# Altium integrated library Analog Devices RF IF Amplifiers.IntLib: 48 symbols (part 2 of 3)
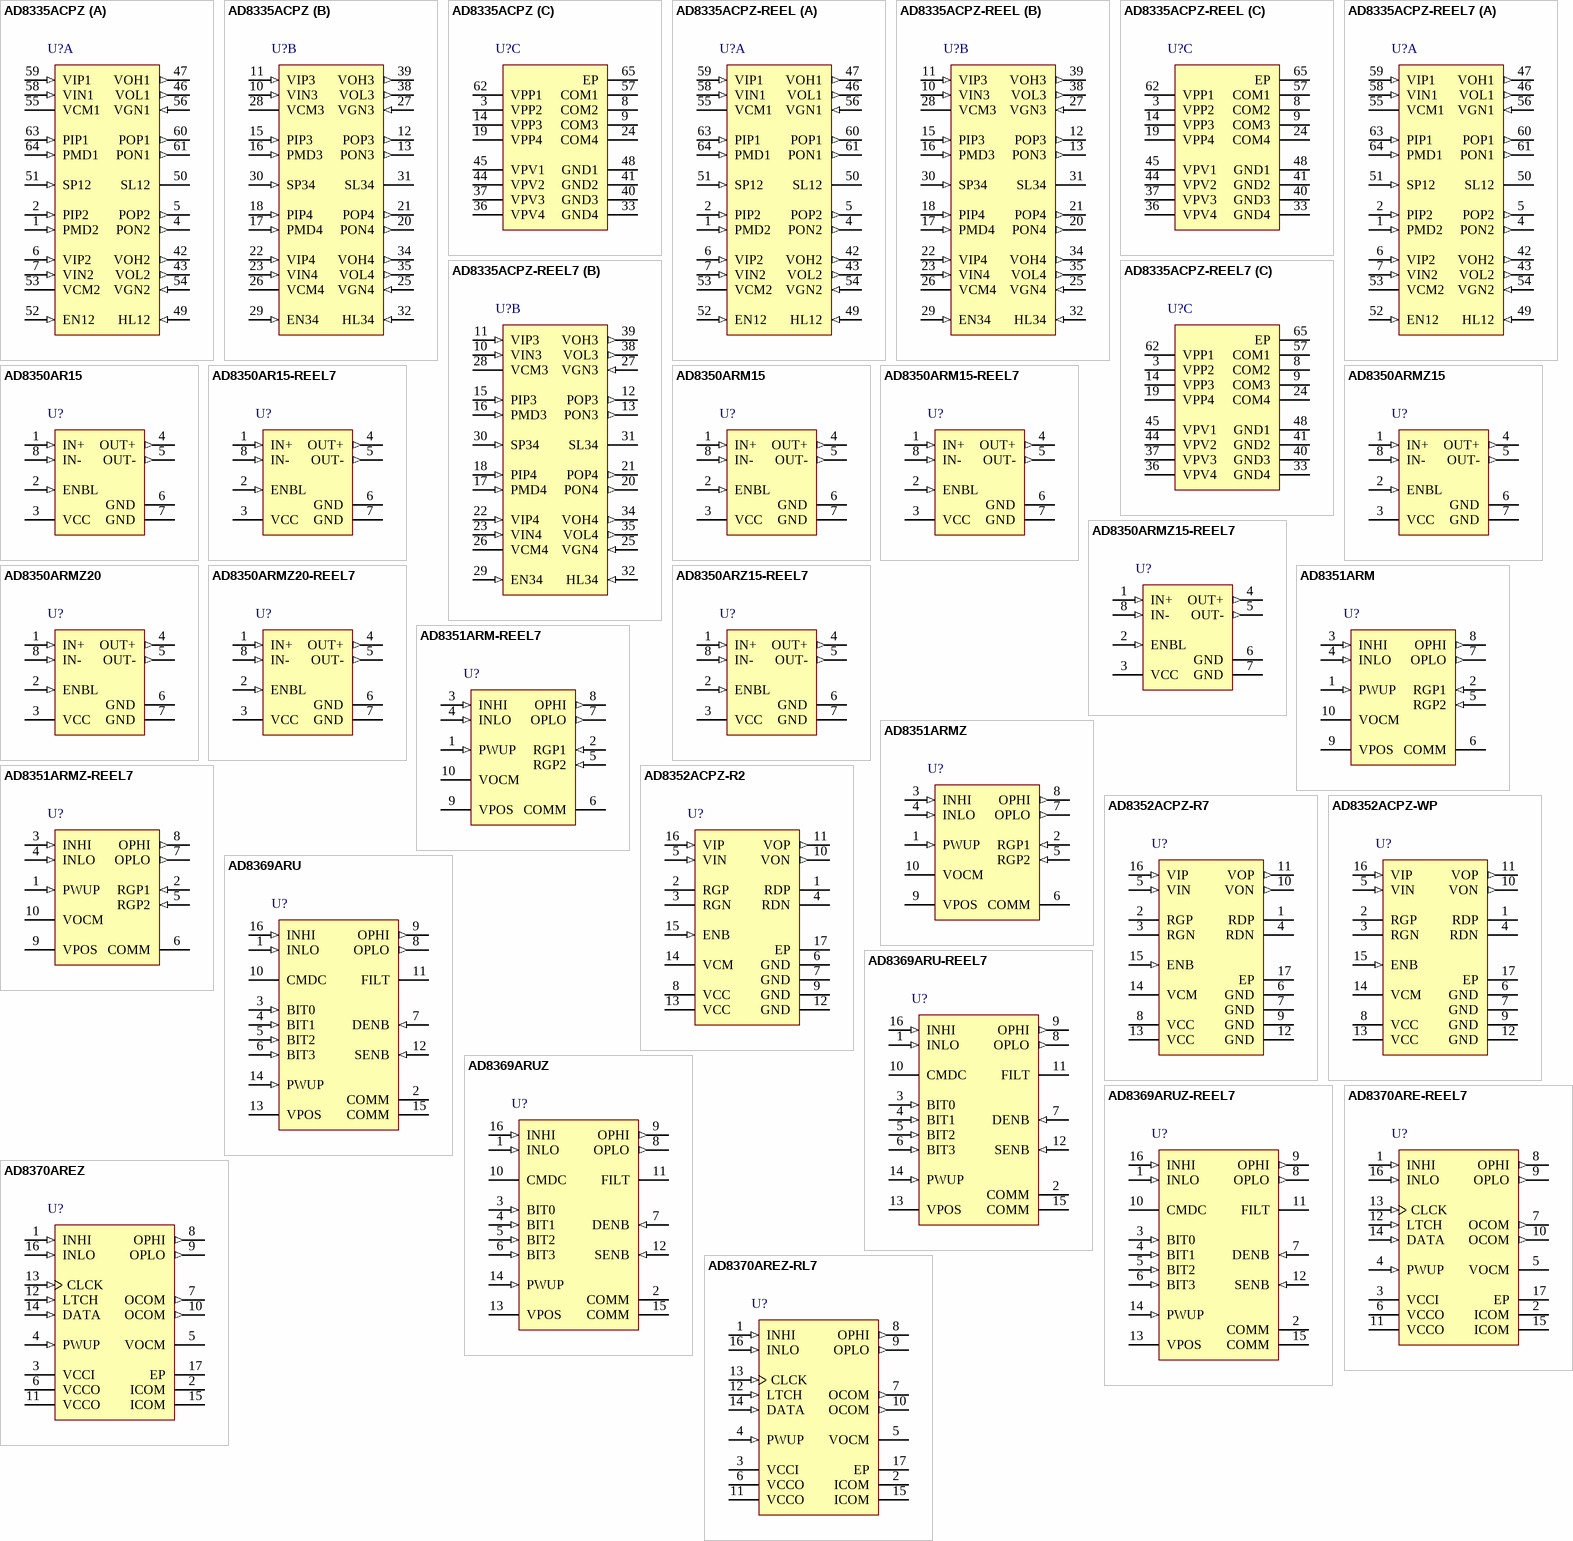
[diagram p2: symbols AD8335ACPZ to AD8370AREZ-RL7]

## AD8369ARUZ
designator U?
45 dB Digitally Controlled VGA LF to 600 MHz, 45dB, 5.5V, 37mA, RU-16, Pb-Free, 96 Tube; -3 dB BW: 600MHz; Distortion (2nd): 68dBc; Distortion (3rd): 64dBc; Output IP3: 19.5dBm; Noise Figure: 7dB; Spectral Noise: 2(nV/rtHz); DatasheetVersion: Rev. 0; PackageVersion: Nov-2002; PackageReference: RU-16; PackageDescription: 16-Lead Thin Shrink Small Outline Package [TSSOP]; Gain: 45dB; Supply Voltage (V): 5.5V; Code_JEDEC: MO-153AB; ComponentLink1Description: Manufacturer URL; ComponentLink1URL: www.analog.com; ComponentLink2Description: Datasheet; ComponentLink2URL: http://www.analog.com/static/imported-files/data_sheets/AD8369.pdf; ComponentLink3Description: Package Specification; ComponentLink3URL: http://www.analog.com/static/imported-files/packages/36244347913743854010197452789RU16.pdf
footprint ADI-RU-16_N (TSOP, 16-Leads, Body 5x4.4mm, Pitch 0.65mm, IPC Medium Density)
footprint ADI-RU-16_L (TSOP, 16-Leads, Body 5x4.4mm, Pitch 0.65mm, IPC High Density)
footprint ADI-RU-16_M (TSOP, 16-Leads, Body 5x4.4mm, Pitch 0.65mm, IPC Low Density)
pins: 1 INLO (in) "Balanced Differential Input.Internally biased,should be ac-coupled.", 2 COMM (power) "Device Common.Connect to low impedance ground.", 3 BIT0 (in) "Gain Selection Least Significant Bit. Used as DATA input signal when in serial mode of operation.", 4 BIT1 (in) "Gain Selection Control Bit. Used as CLOCK input pin when in serial mode of operation.", 5 BIT2 (in) "Gain Selection Control Bit. Inactive when in serial mode of operatio", 6 BIT3 (in) "Gain Selection Most Significant Bit. Inactive when in serial mode of operation", 7 DENB (in) "Data Enable Pin. Writes data to register. See Timing Specifications for details.", 8 OPLO (out) "Balanced Differential Output. Biased to midsupply, should be ac-coupled.", 9 OPHI (out) "Balanced Differential Output. Biased to midsupply, should be ac-coupled.", 10 CMDC "Common-Mode Decoupling Pin. Connect bypass capacitor to ground for additional common-mode supply decoupling beyond the existing internal decoupling.", 11 FILT "High-Pass Filter Connection. Used to set high-pass corner frequency.", 12 SENB (in) "Serial or Parallel Interface Select. Connect SENB to VPOS for serial operation. Connect SENB to COMM for parallel operation.", 13 VPOS (power) "Positive Supply Voltage,VS=+3V to +5.5.", 14 PWUP (in) "Power-Up Pin. Connect PWUP to VPOS to power up the device. Connect PWUP to COMM to power-down.", 15 COMM (power) "Device Common. Connect to a low impedance ground.", 16 INHI (in) "Balanced Differential Input. Internally biased, should be ac-coupled."

## AD8369ARUZ-REEL7
designator U?
45 dB Digitally Controlled VGA LF to 600 MHz, 45dB, 5.5V, 37mA, RU-16, Pb-Free, 1000 Reel; -3 dB BW: 600MHz; Distortion (2nd): 68dBc; Distortion (3rd): 64dBc; Output IP3: 19.5dBm; Noise Figure: 7dB; Spectral Noise: 2(nV/rtHz); DatasheetVersion: Rev. 0; PackageVersion: Nov-2002; PackageReference: RU-16; PackageDescription: 16-Lead Thin Shrink Small Outline Package [TSSOP]; Gain: 45dB; Supply Voltage (V): 5.5V; Code_JEDEC: MO-153AB; ComponentLink1Description: Manufacturer URL; ComponentLink1URL: www.analog.com; ComponentLink2Description: Datasheet; ComponentLink2URL: http://www.analog.com/static/imported-files/data_sheets/AD8369.pdf; ComponentLink3Description: Package Specification; ComponentLink3URL: http://www.analog.com/static/imported-files/packages/36244347913743854010197452789RU16.pdf
footprint ADI-RU-16_N (TSOP, 16-Leads, Body 5x4.4mm, Pitch 0.65mm, IPC Medium Density)
footprint ADI-RU-16_L (TSOP, 16-Leads, Body 5x4.4mm, Pitch 0.65mm, IPC High Density)
footprint ADI-RU-16_M (TSOP, 16-Leads, Body 5x4.4mm, Pitch 0.65mm, IPC Low Density)
pins: 1 INLO (in) "Balanced Differential Input.Internally biased,should be ac-coupled.", 2 COMM (power) "Device Common.Connect to low impedance ground.", 3 BIT0 (in) "Gain Selection Least Significant Bit. Used as DATA input signal when in serial mode of operation.", 4 BIT1 (in) "Gain Selection Control Bit. Used as CLOCK input pin when in serial mode of operation.", 5 BIT2 (in) "Gain Selection Control Bit. Inactive when in serial mode of operatio", 6 BIT3 (in) "Gain Selection Most Significant Bit. Inactive when in serial mode of operation", 7 DENB (in) "Data Enable Pin. Writes data to register. See Timing Specifications for details.", 8 OPLO (out) "Balanced Differential Output. Biased to midsupply, should be ac-coupled.", 9 OPHI (out) "Balanced Differential Output. Biased to midsupply, should be ac-coupled.", 10 CMDC "Common-Mode Decoupling Pin. Connect bypass capacitor to ground for additional common-mode supply decoupling beyond the existing internal decoupling.", 11 FILT "High-Pass Filter Connection. Used to set high-pass corner frequency.", 12 SENB (in) "Serial or Parallel Interface Select. Connect SENB to VPOS for serial operation. Connect SENB to COMM for parallel operation.", 13 VPOS (power) "Positive Supply Voltage,VS=+3V to +5.5.", 14 PWUP (in) "Power-Up Pin. Connect PWUP to VPOS to power up the device. Connect PWUP to COMM to power-down.", 15 COMM (power) "Device Common. Connect to a low impedance ground.", 16 INHI (in) "Balanced Differential Input. Internally biased, should be ac-coupled."

## AD8370ARE-REEL7
designator U?
LF to 750 MHz, Digitally Controlled VGA, 34dB, 5.5V, 78mA, RE-16-2, 1000 Reel; -3 dB BW: 750MHz; Distortion (2nd): 65dBc; Distortion (3rd): 62dBc; Output IP3: 31dBm; Noise Figure: 7.4dB; Spectral Noise: 2.1(nV/rtHz); DatasheetVersion: Rev. B; PackageVersion: 050806-A; PackageReference: RE-16-2; PackageDescription: 16-Lead Thin Shrink Small Outline With Exposed Pad [TSSOP_EP]; Gain: 34dB; Supply Voltage (V): 5.5V; Code_JEDEC: MO-153-ABT; ComponentLink1Description: Manufacturer URL; ComponentLink1URL: www.analog.com; ComponentLink2Description: Datasheet; ComponentLink2URL: http://www.analog.com/static/imported-files/data_sheets/AD8370.pdf; ComponentLink3Description: Package Specification; ComponentLink3URL: http://www.analog.com/static/imported-files/packages/PKG_PDF/TSSOP_EP(RE)/RE_16_2.pdf
footprint ADI-RE-16-2_N (TSOP, 16-Leads, Body 5x4.4mm, Pitch 0.65mm, Thermal Pad, IPC Medium Density)
footprint ADI-RE-16-2_L (TSOP, 16-Leads, Body 5x4.4mm, Pitch 0.65mm, Thermal Pad, IPC High Density)
footprint ADI-RE-16-2_M (TSOP, 16-Leads, Body 5x4.4mm, Pitch 0.65mm, Thermal Pad, IPC Low Density)
pins: 1 INHI (in) "Balanced Differential Input. Internally biased.", 2 ICOM (power) "Input Common. Connect to a low impedance ground. This node is also connected to the exposed pad on the bottom of the device.", 3 VCCI (power) "Input Positive Supply. 3.0 V to 5.5 V. Should be properly bypassed.", 4 PWUP (in) "Power Enable Pin. Device is operational when PWUP is pulled high.", 5 VOCM "Common-Mode Output Voltage Pin. The midsupply ((VVCCO - VOCOM)/2) common-mode voltage is delivered to this pin for external bypassing for additional common-mode supply decoupling. [see datasheet]", 6 VCCO (power) "Output Positive Supply. 3.0 V to 5.5 V. Should be properly bypassed.", 7 OCOM (out) "Output Common. Connect to a low impedance ground.", 8 OPHI (out) "Balanced Differential Output. Biased to midsupply.", 9 OPLO (out) "Balanced Differential Output. Biased to midsupply", 10 OCOM (out) "Output Common. Connect to a low impedance ground.", 11 VCCO (power) "Output Positive Supply. 3.0 V to 5.5 V. Should be properly bypassed.", 12 LTCH (in) "Serial Data Latch Pin. Serial data is clocked into the shift register via the DATA pin when LTCH is low. Data in shift register is latched on the next high-going edge.", 13 CLCK (in) "Serial Clock Input Pin.", 14 DATA (in) "Serial Data Input Pin.", 15 ICOM (power) "Input Common. Connect to a low impedance ground. This node is also connected to the exposed pad on the bottom of the device.", 16 INLO (in) "Balanced Differential Input.Internally biased.", 17 EP (power) "Exposed pad must be soldered to ground."

## AD8370AREZ
designator U?
LF to 750 MHz, Digitally Controlled VGA, 34dB, 5.5V, 78mA, RE-16-2, Pb-Free, 96 Tube; -3 dB BW: 750MHz; Distortion (2nd): 65dBc; Distortion (3rd): 62dBc; Output IP3: 31dBm; Noise Figure: 7.4dB; Spectral Noise: 2.1(nV/rtHz); DatasheetVersion: Rev. B; PackageVersion: 050806-A; PackageReference: RE-16-2; PackageDescription: 16-Lead Thin Shrink Small Outline With Exposed Pad [TSSOP_EP]; Gain: 34dB; Supply Voltage (V): 5.5V; Code_JEDEC: MO-153-ABT; ComponentLink1Description: Manufacturer URL; ComponentLink1URL: www.analog.com; ComponentLink2Description: Datasheet; ComponentLink2URL: http://www.analog.com/static/imported-files/data_sheets/AD8370.pdf; ComponentLink3Description: Package Specification; ComponentLink3URL: http://www.analog.com/static/imported-files/packages/PKG_PDF/TSSOP_EP(RE)/RE_16_2.pdf
footprint ADI-RE-16-2_N (TSOP, 16-Leads, Body 5x4.4mm, Pitch 0.65mm, Thermal Pad, IPC Medium Density)
footprint ADI-RE-16-2_L (TSOP, 16-Leads, Body 5x4.4mm, Pitch 0.65mm, Thermal Pad, IPC High Density)
footprint ADI-RE-16-2_M (TSOP, 16-Leads, Body 5x4.4mm, Pitch 0.65mm, Thermal Pad, IPC Low Density)
pins: 1 INHI (in) "Balanced Differential Input. Internally biased.", 2 ICOM (power) "Input Common. Connect to a low impedance ground. This node is also connected to the exposed pad on the bottom of the device.", 3 VCCI (power) "Input Positive Supply. 3.0 V to 5.5 V. Should be properly bypassed.", 4 PWUP (in) "Power Enable Pin. Device is operational when PWUP is pulled high.", 5 VOCM "Common-Mode Output Voltage Pin. The midsupply ((VVCCO - VOCOM)/2) common-mode voltage is delivered to this pin for external bypassing for additional common-mode supply decoupling. [see datasheet]", 6 VCCO (power) "Output Positive Supply. 3.0 V to 5.5 V. Should be properly bypassed.", 7 OCOM (out) "Output Common. Connect to a low impedance ground.", 8 OPHI (out) "Balanced Differential Output. Biased to midsupply.", 9 OPLO (out) "Balanced Differential Output. Biased to midsupply", 10 OCOM (out) "Output Common. Connect to a low impedance ground.", 11 VCCO (power) "Output Positive Supply. 3.0 V to 5.5 V. Should be properly bypassed.", 12 LTCH (in) "Serial Data Latch Pin. Serial data is clocked into the shift register via the DATA pin when LTCH is low. Data in shift register is latched on the next high-going edge.", 13 CLCK (in) "Serial Clock Input Pin.", 14 DATA (in) "Serial Data Input Pin.", 15 ICOM (power) "Input Common. Connect to a low impedance ground. This node is also connected to the exposed pad on the bottom of the device.", 16 INLO (in) "Balanced Differential Input.Internally biased.", 17 EP (power) "Exposed pad must be soldered to ground."

## AD8370AREZ-RL7
designator U?
LF to 750 MHz, Digitally Controlled VGA, 34dB, 5.5V, 78mA, RE-16-2, Pb-Free, 1000 Reel; -3 dB BW: 750MHz; Distortion (2nd): 65dBc; Distortion (3rd): 62dBc; Output IP3: 31dBm; Noise Figure: 7.4dB; Spectral Noise: 2.1(nV/rtHz); DatasheetVersion: Rev. B; PackageVersion: 050806-A; PackageReference: RE-16-2; PackageDescription: 16-Lead Thin Shrink Small Outline With Exposed Pad [TSSOP_EP]; Gain: 34dB; Supply Voltage (V): 5.5V; Code_JEDEC: MO-153-ABT; ComponentLink1Description: Manufacturer URL; ComponentLink1URL: www.analog.com; ComponentLink2Description: Datasheet; ComponentLink2URL: http://www.analog.com/static/imported-files/data_sheets/AD8370.pdf; ComponentLink3Description: Package Specification; ComponentLink3URL: http://www.analog.com/static/imported-files/packages/PKG_PDF/TSSOP_EP(RE)/RE_16_2.pdf
footprint ADI-RE-16-2_N (TSOP, 16-Leads, Body 5x4.4mm, Pitch 0.65mm, Thermal Pad, IPC Medium Density)
footprint ADI-RE-16-2_L (TSOP, 16-Leads, Body 5x4.4mm, Pitch 0.65mm, Thermal Pad, IPC High Density)
footprint ADI-RE-16-2_M (TSOP, 16-Leads, Body 5x4.4mm, Pitch 0.65mm, Thermal Pad, IPC Low Density)
pins: 1 INHI (in) "Balanced Differential Input. Internally biased.", 2 ICOM (power) "Input Common. Connect to a low impedance ground. This node is also connected to the exposed pad on the bottom of the device.", 3 VCCI (power) "Input Positive Supply. 3.0 V to 5.5 V. Should be properly bypassed.", 4 PWUP (in) "Power Enable Pin. Device is operational when PWUP is pulled high.", 5 VOCM "Common-Mode Output Voltage Pin. The midsupply ((VVCCO - VOCOM)/2) common-mode voltage is delivered to this pin for external bypassing for additional common-mode supply decoupling. [see datasheet]", 6 VCCO (power) "Output Positive Supply. 3.0 V to 5.5 V. Should be properly bypassed.", 7 OCOM (out) "Output Common. Connect to a low impedance ground.", 8 OPHI (out) "Balanced Differential Output. Biased to midsupply.", 9 OPLO (out) "Balanced Differential Output. Biased to midsupply", 10 OCOM (out) "Output Common. Connect to a low impedance ground.", 11 VCCO (power) "Output Positive Supply. 3.0 V to 5.5 V. Should be properly bypassed.", 12 LTCH (in) "Serial Data Latch Pin. Serial data is clocked into the shift register via the DATA pin when LTCH is low. Data in shift register is latched on the next high-going edge.", 13 CLCK (in) "Serial Clock Input Pin.", 14 DATA (in) "Serial Data Input Pin.", 15 ICOM (power) "Input Common. Connect to a low impedance ground. This node is also connected to the exposed pad on the bottom of the device.", 16 INLO (in) "Balanced Differential Input.Internally biased.", 17 EP (power) "Exposed pad must be soldered to ground."

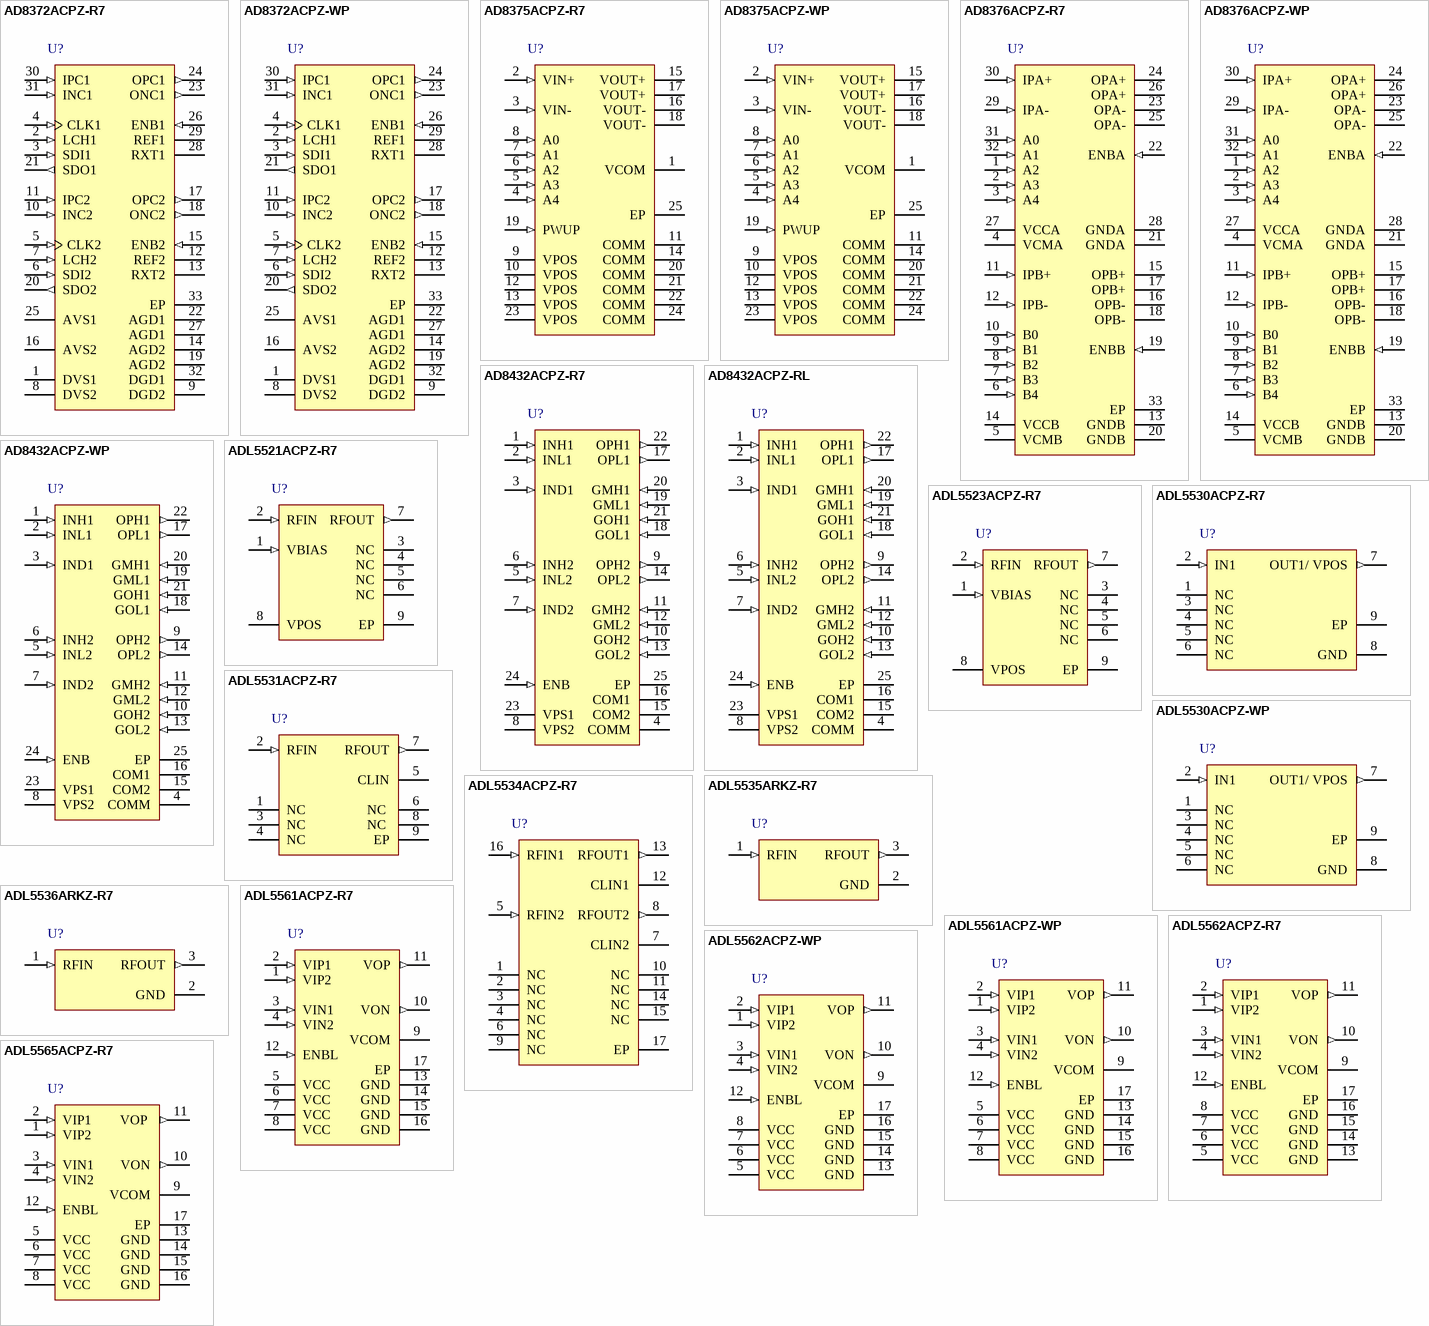
[diagram p1: symbols AD8372ACPZ-R7 to ADL5565ACPZ-R7]

## AD8372ACPZ-R7
designator U?
41 dB Range, 1 dB Step Size, Programmable Dual VGA, 41dB, 5V, 116mA, CP-32-2, Pb-Free, 1500 Reel; -3 dB BW: 130MHz; Distortion (2nd): 78dBc; Distortion (3rd): 85dBc; Output IP3: 35dBm; Noise Figure: 8.1dB; DatasheetVersion: Rev. B; PackageVersion: Jan-2005; PackageReference: CP-32-2; PackageDescription: 32-Lead Lead Frame Chip Scale Package [LFCSP_VQ]; Gain: 41dB; Supply Voltage (V): 5V; Code_JEDEC: MO-220-VHHD-2; ComponentLink1Description: Manufacturer URL; ComponentLink1URL: www.analog.com; ComponentLink2Description: Datasheet; ComponentLink2URL: http://www.analog.com/static/imported-files/data_sheets/AD8372.pdf; ComponentLink3Description: Package Specification; ComponentLink3URL: http://www.analog.com/static/imported-files/packages/414143737956480539664569CP_32_2.pdf
footprint ADI-CP-32-2_N (QFN, 32-Leads, Body 5x5mm, Pitch 0.5mm, Thermal Pad 3.1x3.1mm, IPC Medium Density)
footprint ADI-CP-32-2_L (QFN, 32-Leads, Body 5x5mm, Pitch 0.5mm, Thermal Pad 3.1x3.1mm, IPC High Density)
footprint ADI-CP-32-2_M (QFN, 32-Leads, Body 5x5mm, Pitch 0.5mm, Thermal Pad 3.1x3.1mm, IPC Low Density)
pins: 1 DVS1 (power) "Digital Supply Pin for Channel 1", 2 LCH1 (in) "Latch Input for Channel", 3 SDI1 (in) "Serial Data Input for Channel 1", 4 CLK1 (in) "Clock Input for Channel 1", 5 CLK2 (in) "Clock Input for Channel", 6 SDI2 (in) "Serial Data Input for Channel 2", 7 LCH2 (in) "Serial Data Input for Channel 2 Latch Input for Channel 2", 8 DVS2 (power) "Digital Supply Pin for Channel 2", 9 DGD2 (power) "Digital Ground for Channel 2", 10 INC2 (in) "Negative Input for Channel 2", 11 IPC2 (in) "Positive Input for Channel 2", 12 REF2 (power) "Reference Voltage for Channel 2", 13 RXT2 "External Bias Setting Resistor Connection for Channel 2", 14 AGD2 (power) "Analog Ground for Channel 2", 15 ENB2 (in) "Chip Enable Pin for Channel 2", 16 AVS2 (power) "Analog Supply Pin for Channel", 17 OPC2 (out) "Positive Output for Channel 2", 18 ONC2 (out) "Negative Output for Channel 2", 19 AGD2 (power) "Analog Ground for Channel 2", 20 SDO2 (out) "Serial Data Output for Channel 2", 21 SDO1 (out) "Serial Data Output for Channel 1", 22 AGD1 (power) "Analog Ground for Channel 1", 23 ONC1 (out) "Negative Output for Channel 1", 24 OPC1 (out) "Positive Output for Channel 1", 25 AVS1 (power) "Analog Supply Pin for Channel 1", 26 ENB1 (in) "Chip Enable Pin for Channel 1", 27 AGD1 (power) "Analog Ground for Channel 1", 28 RXT1 "External Bias Setting Resistor Connection for Channel 1", 29 REF1 (power) "Reference Voltage for Channel 1", 30 IPC1 (in) "Positive Inputfor Channel 1", 31 INC1 (in) "Negative Input for Channel 1", 32 DGD1 (power) "Digital Ground for Channel 1", 33 EP (power) "Exposed Pad.The exposed pad should be connected to AGD1 and AGD2."

## AD8372ACPZ-WP
designator U?
41 dB Range, 1 dB Step Size, Programmable Dual VGA, 41dB, 5V, 116mA, CP-32-2, Pb-Free, 36 Tray; -3 dB BW: 130MHz; Distortion (2nd): 78dBc; Distortion (3rd): 85dBc; Output IP3: 35dBm; Noise Figure: 8.1dB; DatasheetVersion: Rev. B; PackageVersion: Jan-2005; PackageReference: CP-32-2; PackageDescription: 32-Lead Lead Frame Chip Scale Package [LFCSP_VQ]; Gain: 41dB; Supply Voltage (V): 5V; Code_JEDEC: MO-220-VHHD-2; ComponentLink1Description: Manufacturer URL; ComponentLink1URL: www.analog.com; ComponentLink2Description: Datasheet; ComponentLink2URL: http://www.analog.com/static/imported-files/data_sheets/AD8372.pdf; ComponentLink3Description: Package Specification; ComponentLink3URL: http://www.analog.com/static/imported-files/packages/414143737956480539664569CP_32_2.pdf
footprint ADI-CP-32-2_N (QFN, 32-Leads, Body 5x5mm, Pitch 0.5mm, Thermal Pad 3.1x3.1mm, IPC Medium Density)
footprint ADI-CP-32-2_L (QFN, 32-Leads, Body 5x5mm, Pitch 0.5mm, Thermal Pad 3.1x3.1mm, IPC High Density)
footprint ADI-CP-32-2_M (QFN, 32-Leads, Body 5x5mm, Pitch 0.5mm, Thermal Pad 3.1x3.1mm, IPC Low Density)
pins: 1 DVS1 (power) "Digital Supply Pin for Channel 1", 2 LCH1 (in) "Latch Input for Channel", 3 SDI1 (in) "Serial Data Input for Channel 1", 4 CLK1 (in) "Clock Input for Channel 1", 5 CLK2 (in) "Clock Input for Channel", 6 SDI2 (in) "Serial Data Input for Channel 2", 7 LCH2 (in) "Serial Data Input for Channel 2 Latch Input for Channel 2", 8 DVS2 (power) "Digital Supply Pin for Channel 2", 9 DGD2 (power) "Digital Ground for Channel 2", 10 INC2 (in) "Negative Input for Channel 2", 11 IPC2 (in) "Positive Input for Channel 2", 12 REF2 (power) "Reference Voltage for Channel 2", 13 RXT2 "External Bias Setting Resistor Connection for Channel 2", 14 AGD2 (power) "Analog Ground for Channel 2", 15 ENB2 (in) "Chip Enable Pin for Channel 2", 16 AVS2 (power) "Analog Supply Pin for Channel", 17 OPC2 (out) "Positive Output for Channel 2", 18 ONC2 (out) "Negative Output for Channel 2", 19 AGD2 (power) "Analog Ground for Channel 2", 20 SDO2 (out) "Serial Data Output for Channel 2", 21 SDO1 (out) "Serial Data Output for Channel 1", 22 AGD1 (power) "Analog Ground for Channel 1", 23 ONC1 (out) "Negative Output for Channel 1", 24 OPC1 (out) "Positive Output for Channel 1", 25 AVS1 (power) "Analog Supply Pin for Channel 1", 26 ENB1 (in) "Chip Enable Pin for Channel 1", 27 AGD1 (power) "Analog Ground for Channel 1", 28 RXT1 "External Bias Setting Resistor Connection for Channel 1", 29 REF1 (power) "Reference Voltage for Channel 1", 30 IPC1 (in) "Positive Inputfor Channel 1", 31 INC1 (in) "Negative Input for Channel 1", 32 DGD1 (power) "Digital Ground for Channel 1", 33 EP (power) "Exposed Pad.The exposed pad should be connected to AGD1 and AGD2."

## AD8375ACPZ-R7
designator U?
Ultralow Distortion IF VGA, 16dB, 5V, 125mA, CP-24-1, Pb-Free, 1500 Reel; -3 dB BW: 630MHz; Distortion (2nd): 85dBc; Distortion (3rd): 92dBc; Output IP3: 50dBm; Noise Figure: 8.3dB; DatasheetVersion: Rev. 0; PackageVersion: May-2004; PackageReference: CP-24-1; PackageDescription: 24-Lead Lead Frame Chip Scale Package [LFCSP]; Gain: 16dB; Supply Voltage (V): 5V; Code_JEDEC: MO-220-VGGD-2; ComponentLink1Description: Manufacturer URL; ComponentLink1URL: www.analog.com; ComponentLink2Description: Datasheet; ComponentLink2URL: http://www.analog.com/static/imported-files/data_sheets/AD8375.pdf; ComponentLink3Description: Package Specification; ComponentLink3URL: http://www.analog.com/static/imported-files/packages/CP_24_1.pdf
footprint ADI-CP-24-1_N (QFN, 24-Leads, Body 4x4mm, Pitch 0.5mm, Thermal Pad 2.1x2.1mm, IPC Medium Density)
footprint ADI-CP-24-1_L (QFN, 24-Leads, Body 4x4mm, Pitch 0.5mm, Thermal Pad 2.1x2.1mm, IPC High Density)
footprint ADI-CP-24-1_M (QFN, 24-Leads, Body 4x4mm, Pitch 0.5mm, Thermal Pad 2.1x2.1mm, IPC Low Density)
pins: 1 VCOM "Common-Mode Pin.Typically bypassed to ground using external capacitor.", 2 VIN+ (in) "Voltage Input Positive.", 3 VIN- (in) "Voltage Input Negative.", 4 A4 (in) "MSB for the 5-Bit Gain Control Interface.", 5 A3 (in) "MSB-1 for the Gain Control Interface.", 6 A2 (in) "MSB-2 for the Gain Control Interface.", 7 A1 (in) "LSB+1 for the Gain Control Interface.", 8 A0 (in) "LSB for the 5-Bit Gain Control Interface.", 9 VPOS (power) "Positive Supply Pins. Should be bypassed to ground using suitable bypass capacitor.", 10 VPOS (power) "Positive Supply Pins. Should be bypassed to ground using suitable bypass capacitor.", 11 COMM (power) "Device Common(DC Ground).", 12 VPOS (power) "Positive Supply Pins. Should be bypassed to ground using suitable bypass capacitor.", 13 VPOS (power) "Positive Supply Pins. Should be bypassed to ground using suitable bypass capacitor.", 14 COMM (power) "Device Common(DC Ground).", 15 VOUT+ (oc) "Positive Output Pins (Open Collector). Require dc bias of +5 V nominal.", 16 VOUT- (oc) "Negative Output Pins (Open Collector). Require dc bias of +5 V nominal", 17 VOUT+ (oc) "Positive Output Pins (Open Collector). Require dc bias of +5 V nominal.", 18 VOUT- (oc) "Negative Output Pins (Open Collector). Require dc bias of +5 V nominal", 19 PWUP (in) "Chip Enable Pin. Enabled with a logic high and disabled with a logic low.", 20 COMM (power) "Device Common(DC Ground).", 21 COMM (power) "Device Common(DC Ground).", 22 COMM (power) "Device Common(DC Ground).", 23 VPOS (power) "Positive Supply Pins. Should be bypassed to ground using suitable bypass capacitor.", 24 COMM (power) "Device Common(DC Ground).", 25 EP (power) "Exposed pad must be soldered to ground."

## AD8375ACPZ-WP
designator U?
Ultralow Distortion IF VGA, 16dB, 5V, 125mA, CP-24-1, Pb-Free, 64 Tray; -3 dB BW: 630MHz; Distortion (2nd): 85dBc; Distortion (3rd): 92dBc; Output IP3: 50dBm; Noise Figure: 8.3dB; DatasheetVersion: Rev. 0; PackageVersion: May-2004; PackageReference: CP-24-1; PackageDescription: 24-Lead Lead Frame Chip Scale Package [LFCSP]; Gain: 16dB; Supply Voltage (V): 5V; Code_JEDEC: MO-220-VGGD-2; ComponentLink1Description: Manufacturer URL; ComponentLink1URL: www.analog.com; ComponentLink2Description: Datasheet; ComponentLink2URL: http://www.analog.com/static/imported-files/data_sheets/AD8375.pdf; ComponentLink3Description: Package Specification; ComponentLink3URL: http://www.analog.com/static/imported-files/packages/CP_24_1.pdf
footprint ADI-CP-24-1_N (QFN, 24-Leads, Body 4x4mm, Pitch 0.5mm, Thermal Pad 2.1x2.1mm, IPC Medium Density)
footprint ADI-CP-24-1_L (QFN, 24-Leads, Body 4x4mm, Pitch 0.5mm, Thermal Pad 2.1x2.1mm, IPC High Density)
footprint ADI-CP-24-1_M (QFN, 24-Leads, Body 4x4mm, Pitch 0.5mm, Thermal Pad 2.1x2.1mm, IPC Low Density)
pins: 1 VCOM "Common-Mode Pin.Typically bypassed to ground using external capacitor.", 2 VIN+ (in) "Voltage Input Positive.", 3 VIN- (in) "Voltage Input Negative.", 4 A4 (in) "MSB for the 5-Bit Gain Control Interface.", 5 A3 (in) "MSB-1 for the Gain Control Interface.", 6 A2 (in) "MSB-2 for the Gain Control Interface.", 7 A1 (in) "LSB+1 for the Gain Control Interface.", 8 A0 (in) "LSB for the 5-Bit Gain Control Interface.", 9 VPOS (power) "Positive Supply Pins. Should be bypassed to ground using suitable bypass capacitor.", 10 VPOS (power) "Positive Supply Pins. Should be bypassed to ground using suitable bypass capacitor.", 11 COMM (power) "Device Common(DC Ground).", 12 VPOS (power) "Positive Supply Pins. Should be bypassed to ground using suitable bypass capacitor.", 13 VPOS (power) "Positive Supply Pins. Should be bypassed to ground using suitable bypass capacitor.", 14 COMM (power) "Device Common(DC Ground).", 15 VOUT+ (oc) "Positive Output Pins (Open Collector). Require dc bias of +5 V nominal.", 16 VOUT- (oc) "Negative Output Pins (Open Collector). Require dc bias of +5 V nominal", 17 VOUT+ (oc) "Positive Output Pins (Open Collector). Require dc bias of +5 V nominal.", 18 VOUT- (oc) "Negative Output Pins (Open Collector). Require dc bias of +5 V nominal", 19 PWUP (in) "Chip Enable Pin. Enabled with a logic high and disabled with a logic low.", 20 COMM (power) "Device Common(DC Ground).", 21 COMM (power) "Device Common(DC Ground).", 22 COMM (power) "Device Common(DC Ground).", 23 VPOS (power) "Positive Supply Pins. Should be bypassed to ground using suitable bypass capacitor.", 24 COMM (power) "Device Common(DC Ground).", 25 EP (power) "Exposed pad must be soldered to ground."

## AD8376ACPZ-R7
designator U?
Ultralow Distortion IF Dual VGA, 16dB, 5V, 250mA, CP-32-3, Pb-Free, 1500 Reel; -3 dB BW: 700MHz; Distortion (2nd): 82dBc; Distortion (3rd): 91dBc; Output IP3: 50dBm; Noise Figure: 8.7dB; DatasheetVersion: Rev. A; PackageVersion: Jan-2005; PackageReference: CP-32-3; PackageDescription: 32-Lead Lead Frame Chip Scale Package [LFCSP_VQ]; Gain: 16dB; Supply Voltage (V): 5V; Code_JEDEC: MO-220-VHHD-2; ComponentLink1Description: Manufacturer URL; ComponentLink1URL: www.analog.com; ComponentLink2Description: Datasheet; ComponentLink2URL: http://www.analog.com/static/imported-files/data_sheets/AD8376.pdf; ComponentLink3Description: Package Specification; ComponentLink3URL: http://www.analog.com/static/imported-files/packages/32877413525511988CP_32_3.pdf
footprint ADI-CP-32-3_N (QFN, 32-Leads, Body 5x5mm, Pitch 0.5mm, Thermal Pad 3.3x3.3mm, IPC Medium Density)
footprint ADI-CP-32-3_L (QFN, 32-Leads, Body 5x5mm, Pitch 0.5mm, Thermal Pad 3.3x3.3mm, IPC High Density)
footprint ADI-CP-32-3_M (QFN, 32-Leads, Body 5x5mm, Pitch 0.5mm, Thermal Pad 3.3x3.3mm, IPC Low Density)
pins: 1 A2 (in) "MSB-2 for the Gain Control Interface for Channel A.", 2 A3 (in) "MSB-1 for the Gain Control Interface for Channel A.", 3 A4 (in) "MSB for the 5-Bit Gain Control Interface for Channel A.", 4 VCMA "Channel A Input Common-Mode Voltage. Typically bypassed to ground through capacitor.", 5 VCMB "Channel B Input Common-Mode Voltage. Typically bypassed to ground through capacitor", 6 B4 (in) "MSB for the 5-Bit Gain Control Interface for Channel B.", 7 B3 (in) "MSB-1 for the Gain Control Interface for Channel B.", 8 B2 (in) "MSB-2 for the Gain Control Interface for Channel B.", 9 B1 (in) "LSB + 1 for the Gain Control Interface for Channel B.", 10 B0 (in) "LSB for the Gain Control Interface for Channel B.", 11 IPB+ (in) "Channel B Positive Input.", 12 IPB- (in) "Channel B Negative Input.", 13 GNDB (power) "Device Common (DC Ground) for Channel B.", 14 VCCB (power) "Positive Supply Pin for Channel B. Should be bypassed to ground using suitable bypass capacitor.", 15 OPB+ (oc) "Positive Output Pins (Open Collector) for Channel B. Require dc bias of +5 V nominal.", 16 OPB- (oc) "Negative Output Pins (Open Collector) for Channel B. Require dc bias of +5 V nominal.", 17 OPB+ (oc) "Positive Output Pins (Open Collector) for Channel B. Require dc bias of +5 V nominal.", 18 OPB- (oc) "Negative Output Pins (Open Collector) for Channel B. Require dc bias of +5 V nominal.", 19 ENBB (in) "Power Enable Pin for Channel B. Channel B is enabled with a logic high and disabled with a logic low.", 20 GNDB (power) "Device Common (DC Ground) for Channel B.", 21 GNDA (power) "Device Common (DC Ground) for Channel A.", 22 ENBA (in) "Power Enable Pin for Channel A. Channel A is enabled with a logic high and disabled with a logic low.", 23 OPA- (oc) "Negative Output Pins (Open Collector) for Channel A. Require dc bias of +5 V nominal.", 24 OPA+ (oc) "Positive Output Pins (Open Collector) for Channel A. Require dc bias of +5 V nominal.", 25 OPA- (oc) "Negative Output Pins (Open Collector) for Channel A. Require dc bias of +5 V nominal.", 26 OPA+ (oc) "Positive Output Pins (Open Collector) for Channel A. Require dc bias of +5 V nominal.", 27 VCCA (power) "Positive Supply Pins for Channel A. Should be bypassed to ground using suitable bypass capacitor.", 28 GNDA (power) "Device Common (DC Ground) for Channel A.", 29 IPA- (in) "Channel A Negative Input.", 30 IPA+ (in) "Channel A Positive Input", 31 A0 (in) "LSB for the Gain Control Interface for Channel A.", 32 A1 (in) "LSB + 1 for the Gain Control Interface for Channel A.", 33 EP (power) "Internally connected to ground. Solder to a low impedance ground plane."

## AD8376ACPZ-WP
designator U?
Ultralow Distortion IF Dual VGA, 16dB, 5V, 250mA, CP-32-3, Pb-Free, 36 Tray; -3 dB BW: 700MHz; Distortion (2nd): 82dBc; Distortion (3rd): 91dBc; Output IP3: 50dBm; Noise Figure: 8.7dB; DatasheetVersion: Rev. A; PackageVersion: Jan-2005; PackageReference: CP-32-3; PackageDescription: 32-Lead Lead Frame Chip Scale Package [LFCSP_VQ]; Gain: 16dB; Supply Voltage (V): 5V; Code_JEDEC: MO-220-VHHD-2; ComponentLink1Description: Manufacturer URL; ComponentLink1URL: www.analog.com; ComponentLink2Description: Datasheet; ComponentLink2URL: http://www.analog.com/static/imported-files/data_sheets/AD8376.pdf; ComponentLink3Description: Package Specification; ComponentLink3URL: http://www.analog.com/static/imported-files/packages/32877413525511988CP_32_3.pdf
footprint ADI-CP-32-3_N (QFN, 32-Leads, Body 5x5mm, Pitch 0.5mm, Thermal Pad 3.3x3.3mm, IPC Medium Density)
footprint ADI-CP-32-3_L (QFN, 32-Leads, Body 5x5mm, Pitch 0.5mm, Thermal Pad 3.3x3.3mm, IPC High Density)
footprint ADI-CP-32-3_M (QFN, 32-Leads, Body 5x5mm, Pitch 0.5mm, Thermal Pad 3.3x3.3mm, IPC Low Density)
pins: 1 A2 (in) "MSB-2 for the Gain Control Interface for Channel A.", 2 A3 (in) "MSB-1 for the Gain Control Interface for Channel A.", 3 A4 (in) "MSB for the 5-Bit Gain Control Interface for Channel A.", 4 VCMA "Channel A Input Common-Mode Voltage. Typically bypassed to ground through capacitor.", 5 VCMB "Channel B Input Common-Mode Voltage. Typically bypassed to ground through capacitor", 6 B4 (in) "MSB for the 5-Bit Gain Control Interface for Channel B.", 7 B3 (in) "MSB-1 for the Gain Control Interface for Channel B.", 8 B2 (in) "MSB-2 for the Gain Control Interface for Channel B.", 9 B1 (in) "LSB + 1 for the Gain Control Interface for Channel B.", 10 B0 (in) "LSB for the Gain Control Interface for Channel B.", 11 IPB+ (in) "Channel B Positive Input.", 12 IPB- (in) "Channel B Negative Input.", 13 GNDB (power) "Device Common (DC Ground) for Channel B.", 14 VCCB (power) "Positive Supply Pin for Channel B. Should be bypassed to ground using suitable bypass capacitor.", 15 OPB+ (oc) "Positive Output Pins (Open Collector) for Channel B. Require dc bias of +5 V nominal.", 16 OPB- (oc) "Negative Output Pins (Open Collector) for Channel B. Require dc bias of +5 V nominal.", 17 OPB+ (oc) "Positive Output Pins (Open Collector) for Channel B. Require dc bias of +5 V nominal.", 18 OPB- (oc) "Negative Output Pins (Open Collector) for Channel B. Require dc bias of +5 V nominal.", 19 ENBB (in) "Power Enable Pin for Channel B. Channel B is enabled with a logic high and disabled with a logic low.", 20 GNDB (power) "Device Common (DC Ground) for Channel B.", 21 GNDA (power) "Device Common (DC Ground) for Channel A.", 22 ENBA (in) "Power Enable Pin for Channel A. Channel A is enabled with a logic high and disabled with a logic low.", 23 OPA- (oc) "Negative Output Pins (Open Collector) for Channel A. Require dc bias of +5 V nominal.", 24 OPA+ (oc) "Positive Output Pins (Open Collector) for Channel A. Require dc bias of +5 V nominal.", 25 OPA- (oc) "Negative Output Pins (Open Collector) for Channel A. Require dc bias of +5 V nominal.", 26 OPA+ (oc) "Positive Output Pins (Open Collector) for Channel A. Require dc bias of +5 V nominal.", 27 VCCA (power) "Positive Supply Pins for Channel A. Should be bypassed to ground using suitable bypass capacitor.", 28 GNDA (power) "Device Common (DC Ground) for Channel A.", 29 IPA- (in) "Channel A Negative Input.", 30 IPA+ (in) "Channel A Positive Input", 31 A0 (in) "LSB for the Gain Control Interface for Channel A.", 32 A1 (in) "LSB + 1 for the Gain Control Interface for Channel A.", 33 EP (power) "Internally connected to ground. Solder to a low impedance ground plane."

## AD8432ACPZ-R7
designator U?
Dual-Channel Ultralow Noise Amplifier with Selectable Gain and Input Impedance, 24.08dB, 24mA, CP-24-7, Pb-Free, 1500 Reel; 1 dB Comp Point: 7.7dBm; Output IP3: 36.2dBm; Noise Figure: 2.3dB; Specs @ (MHz): 10MHz; DatasheetVersion: Rev. B; PackageVersion: 112108-A; PackageReference: CP-24-7; PackageDescription: 24-Lead Lead Frame Chip Scale Package [LFCSP_WQ]; Gain: 24.08dB; Supply Current: 24mA; Code_JEDEC: MO-220-WGGD; ComponentLink1Description: Manufacturer URL; ComponentLink1URL: www.analog.com; ComponentLink2Description: Datasheet; ComponentLink2URL: http://www.analog.com/static/imported-files/data_sheets/AD8432.pdf; ComponentLink3Description: Package Specification; ComponentLink3URL: http://www.analog.com/static/imported-files/packages/PKG_PDF/LFCSP(CP)/CP_24_7.pdf
footprint ADI-CP-24-7_N (QFN, 24-Leads, Body 4x4mm, Pitch 0.5mm, Thermal Pad 2.6x2.6mm, IPC Medium Density)
footprint ADI-CP-24-7_L (QFN, 24-Leads, Body 4x4mm, Pitch 0.5mm, Thermal Pad 2.6x2.6mm, IPC High Density)
footprint ADI-CP-24-7_M (QFN, 24-Leads, Body 4x4mm, Pitch 0.5mm, Thermal Pad 2.6x2.6mm, IPC Low Density)
pins: 1 INH1 (in) "LNA1 Noninverting Input.", 2 INL1 (in) "LNA1 Inverting Input (AC-Coupled to Ground)", 3 IND1 (in) "Integrated Input Clamping Back-to-Back Diodes", 4 COMM (power) "Input Ground.", 5 INL2 (in) "LNA2 Inverting Input (AC-Coupled to Ground).", 6 INH2 (in) "LNA2 Noninverting Input.", 7 IND2 (in) "Integrated Input Clamping Back-to-Back Diodes.", 8 VPS2 (power) "5 V Supply.", 9 OPH2 (out) "Noninverting Output of LNA2.", 10 GOH2 (in) "Gain Setting Pin for LNA2.", 11 GMH2 (in) "Gain Setting Pin for LNA2.", 12 GML2 (in) "Gain Setting Pin for LNA2.", 13 GOL2 (in) "Gain Setting Pin for LNA2.", 14 OPL2 (out) "Inverting Output of LNA2.", 15 COM2 (power) "LNA2 Output Ground.", 16 COM1 (power) "LNA1 Output Ground.", 17 OPL1 (out) "Inverting Output of LNA1.", 18 GOL1 (in) "Gain Setting Pin for LNA1.", 19 GML1 (in) "Gain Setting Pin for LNA1.", 20 GMH1 (in) "Gain Setting Pin for LNA1.", 21 GOH1 (in) "Gain Setting Pin for LNA1.", 22 OPH1 (out) "Noninverting Output of LNA1.", 23 VPS1 (power) "5 V Supply.", 24 ENB (in) "Enable.", 25 EP (power) "Exposed pad must be connected to ground."

## AD8432ACPZ-RL
designator U?
Dual-Channel Ultralow Noise Amplifier with Selectable Gain and Input Impedance, 24.08dB, 24mA, CP-24-7, Pb-Free, 1500 Reel; 1 dB Comp Point: 7.7dBm; Output IP3: 36.2dBm; Noise Figure: 2.3dB; Specs @ (MHz): 10MHz; DatasheetVersion: Rev. B; PackageVersion: 112108-A; PackageReference: CP-24-7; PackageDescription: 24-Lead Lead Frame Chip Scale Package [LFCSP_WQ]; Gain: 24.08dB; Supply Current: 24mA; Code_JEDEC: MO-220-WGGD; ComponentLink1Description: Manufacturer URL; ComponentLink1URL: www.analog.com; ComponentLink2Description: Datasheet; ComponentLink2URL: http://www.analog.com/static/imported-files/data_sheets/AD8432.pdf; ComponentLink3Description: Package Specification; ComponentLink3URL: http://www.analog.com/static/imported-files/packages/PKG_PDF/LFCSP(CP)/CP_24_7.pdf
footprint ADI-CP-24-7_N (QFN, 24-Leads, Body 4x4mm, Pitch 0.5mm, Thermal Pad 2.6x2.6mm, IPC Medium Density)
footprint ADI-CP-24-7_L (QFN, 24-Leads, Body 4x4mm, Pitch 0.5mm, Thermal Pad 2.6x2.6mm, IPC High Density)
footprint ADI-CP-24-7_M (QFN, 24-Leads, Body 4x4mm, Pitch 0.5mm, Thermal Pad 2.6x2.6mm, IPC Low Density)
pins: 1 INH1 (in) "LNA1 Noninverting Input.", 2 INL1 (in) "LNA1 Inverting Input (AC-Coupled to Ground)", 3 IND1 (in) "Integrated Input Clamping Back-to-Back Diodes", 4 COMM (power) "Input Ground.", 5 INL2 (in) "LNA2 Inverting Input (AC-Coupled to Ground).", 6 INH2 (in) "LNA2 Noninverting Input.", 7 IND2 (in) "Integrated Input Clamping Back-to-Back Diodes.", 8 VPS2 (power) "5 V Supply.", 9 OPH2 (out) "Noninverting Output of LNA2.", 10 GOH2 (in) "Gain Setting Pin for LNA2.", 11 GMH2 (in) "Gain Setting Pin for LNA2.", 12 GML2 (in) "Gain Setting Pin for LNA2.", 13 GOL2 (in) "Gain Setting Pin for LNA2.", 14 OPL2 (out) "Inverting Output of LNA2.", 15 COM2 (power) "LNA2 Output Ground.", 16 COM1 (power) "LNA1 Output Ground.", 17 OPL1 (out) "Inverting Output of LNA1.", 18 GOL1 (in) "Gain Setting Pin for LNA1.", 19 GML1 (in) "Gain Setting Pin for LNA1.", 20 GMH1 (in) "Gain Setting Pin for LNA1.", 21 GOH1 (in) "Gain Setting Pin for LNA1.", 22 OPH1 (out) "Noninverting Output of LNA1.", 23 VPS1 (power) "5 V Supply.", 24 ENB (in) "Enable.", 25 EP (power) "Exposed pad must be connected to ground."

## AD8432ACPZ-WP
designator U?
Dual-Channel Ultralow Noise Amplifier with Selectable Gain and Input Impedance, 24.08dB, 24mA, CP-24-7, Pb-Free, 64 Tray; 1 dB Comp Point: 7.7dBm; Output IP3: 36.2dBm; Noise Figure: 2.3dB; Specs @ (MHz): 10MHz; DatasheetVersion: Rev. B; PackageVersion: 112108-A; PackageReference: CP-24-7; PackageDescription: 24-Lead Lead Frame Chip Scale Package [LFCSP_WQ]; Gain: 24.08dB; Supply Current: 24mA; Code_JEDEC: MO-220-WGGD; ComponentLink1Description: Manufacturer URL; ComponentLink1URL: www.analog.com; ComponentLink2Description: Datasheet; ComponentLink2URL: http://www.analog.com/static/imported-files/data_sheets/AD8432.pdf; ComponentLink3Description: Package Specification; ComponentLink3URL: http://www.analog.com/static/imported-files/packages/PKG_PDF/LFCSP(CP)/CP_24_7.pdf
footprint ADI-CP-24-7_N (QFN, 24-Leads, Body 4x4mm, Pitch 0.5mm, Thermal Pad 2.6x2.6mm, IPC Medium Density)
footprint ADI-CP-24-7_L (QFN, 24-Leads, Body 4x4mm, Pitch 0.5mm, Thermal Pad 2.6x2.6mm, IPC High Density)
footprint ADI-CP-24-7_M (QFN, 24-Leads, Body 4x4mm, Pitch 0.5mm, Thermal Pad 2.6x2.6mm, IPC Low Density)
pins: 1 INH1 (in) "LNA1 Noninverting Input.", 2 INL1 (in) "LNA1 Inverting Input (AC-Coupled to Ground)", 3 IND1 (in) "Integrated Input Clamping Back-to-Back Diodes", 4 COMM (power) "Input Ground.", 5 INL2 (in) "LNA2 Inverting Input (AC-Coupled to Ground).", 6 INH2 (in) "LNA2 Noninverting Input.", 7 IND2 (in) "Integrated Input Clamping Back-to-Back Diodes.", 8 VPS2 (power) "5 V Supply.", 9 OPH2 (out) "Noninverting Output of LNA2.", 10 GOH2 (in) "Gain Setting Pin for LNA2.", 11 GMH2 (in) "Gain Setting Pin for LNA2.", 12 GML2 (in) "Gain Setting Pin for LNA2.", 13 GOL2 (in) "Gain Setting Pin for LNA2.", 14 OPL2 (out) "Inverting Output of LNA2.", 15 COM2 (power) "LNA2 Output Ground.", 16 COM1 (power) "LNA1 Output Ground.", 17 OPL1 (out) "Inverting Output of LNA1.", 18 GOL1 (in) "Gain Setting Pin for LNA1.", 19 GML1 (in) "Gain Setting Pin for LNA1.", 20 GMH1 (in) "Gain Setting Pin for LNA1.", 21 GOH1 (in) "Gain Setting Pin for LNA1.", 22 OPH1 (out) "Noninverting Output of LNA1.", 23 VPS1 (power) "5 V Supply.", 24 ENB (in) "Enable.", 25 EP (power) "Exposed pad must be connected to ground."

## ADL5521ACPZ-R7
designator U?
400 MHz to 4000 MHz Low Noise Amplifier, 20.8dB, 60mA, CP-8-2, Pb-Free, 1500 Reel; Frequency Range: 400 to 4000; 1 dB Comp Point: 21.8dBm; Output IP3: 37dBm; Noise Figure: 900mdB; Specs @ (MHz): 900MHz; DatasheetVersion: Rev.A; PackageVersion: 061507-B; PackageReference: CP-8-2; PackageDescription: 8-Lead Lead Frame Chip Scale Package [LFCSP_VD]; Gain: 20.8dB; Supply Current: 60mA; ComponentLink1Description: Manufacturer URL; ComponentLink1URL: www.analog.com; ComponentLink2Description: Datasheet; ComponentLink2URL: http://www.analog.com/static/imported-files/data_sheets/ADL5521.pdf; ComponentLink3Description: Package Specification; ComponentLink3URL: http://www.analog.com/static/imported-files/packages/56953322593982CP_8_2.pdf
footprint ADI-CP-8-2_N (SON, 8-Leads, Body 3x3mm, Pitch 0.5mm, Thermal Pad 1.75x1.45mm, IPC Medium Density)
footprint ADI-CP-8-2_L (SON, 8-Leads, Body 3x3mm, Pitch 0.5mm, Thermal Pad 1.75x1.45mm, IPC High Density)
footprint ADI-CP-8-2_M (SON, 8-Leads, Body 3x3mm, Pitch 0.5mm, Thermal Pad 1.75x1.45mm, IPC Low Density)
pins: 1 VBIAS (in) "Internal DC Bias. This pin should be connected to VPOS through the R1 resistor.", 2 RFIN (in) "RF Input. This is the input to the LNA.", 3 NC "No Connection. No internal connection.", 4 NC "No Connection. No internal connection.", 5 NC "No Connection. No internal connection.", 6 NC "No Connection. No internal connection.", 7 RFOUT (out) "RF Output.", 8 VPOS (power) "Supply Voltage. DC bias needs to be bypassed to ground using a low inductance capacitor. This pin is also used for output matching. See the Basic Connections section", 9 EP (power) "GND. Connect the exposed pad to a low impedance ground plane"

## ADL5523ACPZ-R7
designator U?
400 MHz to 4000 MHz Low Noise Amplifier, 21.5dB, 60mA, CP-8-2, Pb-Free, 1500 Reel; Frequency Range: 400 to 4000; 1 dB Comp Point: 21dBm; Output IP3: 34dBm; Noise Figure: 800mdB; Specs @ (MHz): 900MHz; DatasheetVersion: Rev.A; PackageVersion: 061507-B; PackageReference: CP-8-2; PackageDescription: 8-Lead Lead Frame Chip Scale Package [LFCSP_VD]; Gain: 21.5dB; Supply Current: 60mA; ComponentLink1Description: Manufacturer URL; ComponentLink1URL: www.analog.com; ComponentLink2Description: Datasheet; ComponentLink2URL: http://www.analog.com/static/imported-files/data_sheets/ADL5523.pdf; ComponentLink3Description: Package Specification; ComponentLink3URL: http://www.analog.com/static/imported-files/packages/56953322593982CP_8_2.pdf
footprint ADI-CP-8-2_N (SON, 8-Leads, Body 3x3mm, Pitch 0.5mm, Thermal Pad 1.75x1.45mm, IPC Medium Density)
footprint ADI-CP-8-2_L (SON, 8-Leads, Body 3x3mm, Pitch 0.5mm, Thermal Pad 1.75x1.45mm, IPC High Density)
footprint ADI-CP-8-2_M (SON, 8-Leads, Body 3x3mm, Pitch 0.5mm, Thermal Pad 1.75x1.45mm, IPC Low Density)
pins: 1 VBIAS (in) "Internal DC Bias. This pin should be connected to VPOS through the R1 resistor.", 2 RFIN (in) "RF Input. This is the input to the LNA.", 3 NC "No Connection. No internal connection.", 4 NC "No Connection. No internal connection.", 5 NC "No Connection. No internal connection.", 6 NC "No Connection. No internal connection.", 7 RFOUT (out) "RF Output.", 8 VPOS (power) "Supply Voltage. DC bias needs to be bypassed to ground using a low inductance capacitor. This pin is also used for output matching. See the Basic Connections section", 9 EP (power) "GND. Connect the exposed pad to a low impedance ground plane"

## ADL5530ACPZ-R7
designator U?
DC to 1000 MHz IF Gain Block, 5V, CP-8-1, 3000 Reel, Pb-Free; Gain: 16.8dB; 1 dB Comp Point: 21.8dBm; Output IP3: 37dBm; Noise Figure: 3dB; Min Pos Supply: 3V; Supply Current: 110mA; DatasheetVersion: Rev. 0; PackageVersion: 031207-A; PackageReference: CP-8-1; PackageDescription: 8-Lead Lead Frame Chip Scale Package [LFCSP_VD]; Frequency Range: dc to 1000; Max Pos Supply: 5V; ComponentLink1Description: Manufacturer URL; ComponentLink1URL: www.analog.com; ComponentLink2Description: Datasheet; ComponentLink2URL: http://www.analog.com/static/imported-files/data_sheets/ADL5530.pdf; ComponentLink3Description: Package Specification; ComponentLink3URL: http://www.analog.com/static/imported-files/packages/PKG_PDF/LFCSP(CP)/CP-8/CP_8_1.pdf
footprint ADI-CP-8-1_N (SON, 8-Leads, Body 3x2mm, Pitch 0.5mm, Thermal Pad 1.75x0.45mm, IPC Medium Density)
footprint ADI-CP-8-1_L (SON, 8-Leads, Body 3x2mm, Pitch 0.5mm, Thermal Pad 1.75x0.45mm, IPC High Density)
footprint ADI-CP-8-1_M (SON, 8-Leads, Body 3x2mm, Pitch 0.5mm, Thermal Pad 1.75x0.45mm, IPC Low Density)
pins: 1 NC "No Connect.", 2 IN1 (in) "RF Input. Requires a DC blocking capacitor.", 3 NC "No Connect.", 4 NC "No Connect.", 5 NC "No Connect.", 6 NC "No Connect.", 7 OUT1/ VPOS (out) "RF Output and VPOS (Supply Voltage). DC bias is provided to this pin through an inductor. RF path requires a DC blocking capacitor.", 8 GND (power) "Ground. Connect this pin to a low impedance ground plane.", 9 EP (power) "Internally connected to GND. Solder to a low impedance ground plane."

## ADL5530ACPZ-WP
designator U?
DC to 1000 MHz IF Gain Block, 5V, CP-8-1, 50 Tray, Pb-Free; Gain: 16.8dB; 1 dB Comp Point: 21.8dBm; Output IP3: 37dBm; Noise Figure: 3dB; Min Pos Supply: 3V; Supply Current: 110mA; DatasheetVersion: Rev. 0; PackageVersion: 031207-A; PackageReference: CP-8-1; PackageDescription: 8-Lead Lead Frame Chip Scale Package [LFCSP_VD]; Frequency Range: dc to 1000; Max Pos Supply: 5V; ComponentLink1Description: Manufacturer URL; ComponentLink1URL: www.analog.com; ComponentLink2Description: Datasheet; ComponentLink2URL: http://www.analog.com/static/imported-files/data_sheets/ADL5530.pdf; ComponentLink3Description: Package Specification; ComponentLink3URL: http://www.analog.com/static/imported-files/packages/PKG_PDF/LFCSP(CP)/CP-8/CP_8_1.pdf
footprint ADI-CP-8-1_N (SON, 8-Leads, Body 3x2mm, Pitch 0.5mm, Thermal Pad 1.75x0.45mm, IPC Medium Density)
footprint ADI-CP-8-1_L (SON, 8-Leads, Body 3x2mm, Pitch 0.5mm, Thermal Pad 1.75x0.45mm, IPC High Density)
footprint ADI-CP-8-1_M (SON, 8-Leads, Body 3x2mm, Pitch 0.5mm, Thermal Pad 1.75x0.45mm, IPC Low Density)
pins: 1 NC "No Connect.", 2 IN1 (in) "RF Input. Requires a DC blocking capacitor.", 3 NC "No Connect.", 4 NC "No Connect.", 5 NC "No Connect.", 6 NC "No Connect.", 7 OUT1/ VPOS (out) "RF Output and VPOS (Supply Voltage). DC bias is provided to this pin through an inductor. RF path requires a DC blocking capacitor.", 8 GND (power) "Ground. Connect this pin to a low impedance ground plane.", 9 EP (power) "Internally connected to GND. Solder to a low impedance ground plane."

## ADL5531ACPZ-R7
designator U?
20 MHz to 500 MHz IF Gain Block, 5.25V, CP-8-2, 1500 Reel, Pb-Free; Frequency Range: 20 to 500; Gain: 20.9dB; 1 dB Comp Point: 20.4dBm; Output IP3: 41dBm; Noise Figure: 2.5dB; Min Pos Supply: 4.75V; Supply Current: 100mA; DatasheetVersion: Rev. A; PackageVersion: 061507-B; PackageReference: CP-8-2; PackageDescription: 8-Lead Lead Frame Chip Scale Package [LFCSP_VD]; Max Pos Supply: 5.25V; ComponentLink1Description: Manufacturer URL; ComponentLink1URL: www.analog.com; ComponentLink2Description: Datasheet; ComponentLink2URL: http://www.analog.com/static/imported-files/data_sheets/ADL5531.pdf; ComponentLink3Description: Package Specification; ComponentLink3URL: http://www.analog.com/static/imported-files/packages/56953322593982CP_8_2.pdf
footprint ADI-CP-8-2_N (SON, 8-Leads, Body 3x3mm, Pitch 0.5mm, Thermal Pad 1.75x1.45mm, IPC Medium Density)
footprint ADI-CP-8-2_L (SON, 8-Leads, Body 3x3mm, Pitch 0.5mm, Thermal Pad 1.75x1.45mm, IPC High Density)
footprint ADI-CP-8-2_M (SON, 8-Leads, Body 3x3mm, Pitch 0.5mm, Thermal Pad 1.75x1.45mm, IPC Low Density)
pins: 1 NC  "No Connect.", 2 RFIN (in) "RF Input. Requires a 10 nF dc blocking capacitor.", 3 NC  "No Connect.", 4 NC  "No Connect.", 5 CLIN "A 1 nF capacitor connected between Pin 5 and ground provides decoupling for the on-board linearizer", 6 NC  "No Connect.", 7 RFOUT (out) "RF Output and Bias. DC bias is provided to this pin through a 470 nH inductor (Coilcraft 1008CS-471XJLC or equivalent). The RF path requires a 10 nF dc blocking capacitor.", 8 NC  "No Connect.", 9 EP (power) "GND. Solder this pad to a low impedance ground plane"

## ADL5534ACPZ-R7
designator U?
20 MHz to 500 MHz Dual IF Amplifier, 5.25V, CP-16-6, 1500 Reel, Pb-Free; Frequency Range: 20 to 500; Gain: 21dB; 1 dB Comp Point: 20.4dBm; Output IP3: 40.4dBm; Noise Figure: 2.5dB; Min Pos Supply: 4.75V; Supply Current: 98mA; DatasheetVersion: Rev. 0; PackageVersion: 010606-0; PackageReference: CP-16-6; PackageDescription: 16-Lead Lead Frame Chip Scale Package [LFCSP_VQ]; Max Pos Supply: 5.25V; Code_JEDEC: MO-220-VHHB; ComponentLink1Description: Manufacturer URL; ComponentLink1URL: www.analog.com; ComponentLink2Description: Datasheet; ComponentLink2URL: http://www.analog.com/static/imported-files/data_sheets/ADL5534.pdf; ComponentLink3Description: Package Specification; ComponentLink3URL: http://www.analog.com/static/imported-files/packages/46220224477362CP_16_6.pdf
footprint ADI-CP-16-6_N (QFN, 16-Leads, Body 5x5mm, Pitch 0.8mm, Thermal Pad 3.1x3.1mm, IPC Medium Density)
footprint ADI-CP-16-6_L (QFN, 16-Leads, Body 5x5mm, Pitch 0.8mm, Thermal Pad 3.1x3.1mm, IPC High Density)
footprint ADI-CP-16-6_M (QFN, 16-Leads, Body 5x5mm, Pitch 0.8mm, Thermal Pad 3.1x3.1mm, IPC Low Density)
pins: 1 NC "No Connect.", 2 NC "No Connect.", 3 NC "No Connect.", 4 NC "No Connect.", 5 RFIN2 (in) "RF Input. Requires a dc blocking capacitor. Use a 10 nF capacitor for normal operation.", 6 NC "No Connect.", 7 CLIN2 "A 1 nF capacitor connected from Pin 7 to ground and Pin12 to ground provides decoupling for the on-board linearizer.", 8 RFOUT2 (out) "RF Output and Bias. DC bias is provided to this pin through an inductor. A 470 nH inductor is recommended for normal operation. The RF path requires a dc blocking capacitor. Use a 10 nF capacitor for normal operation.", 9 NC "No Connect.", 10 NC "No Connect.", 11 NC "No Connect.", 12 CLIN1 "A 1 nF capacitor connected from Pin 7 to ground and Pin12 to ground provides decoupling for the on-board linearizer.", 13 RFOUT1 (out) "RF Output and Bias. DC bias is provided to this pin through an inductor. A 470 nH inductor is recommended for normal operation. The RF path requires a dc blocking capacitor. Use a 10 nF capacitor for normal operation.", 14 NC "No Connect.", 15 NC "No Connect.", 16 RFIN1 (in) "RF Input. Requires a dc blocking capacitor. Use a 10 nF capacitor for normal operation.", 17 EP (power) "GND. Solder this paddle to a low impedance ground plane."